# Altium footprint library PcbLib1.PcbLib: 18 footprints (part 1 of 2)
Each footprint in its own frame and in the unit in brackets; x right, y up, seen from the top. Pads: shape width x height; smd on the part's side, far side on the other; paste and mask are expansions set on the pad; w line width, h text height; cw(c..) or ccw(c..) is an arc to the next point about the centre after c.
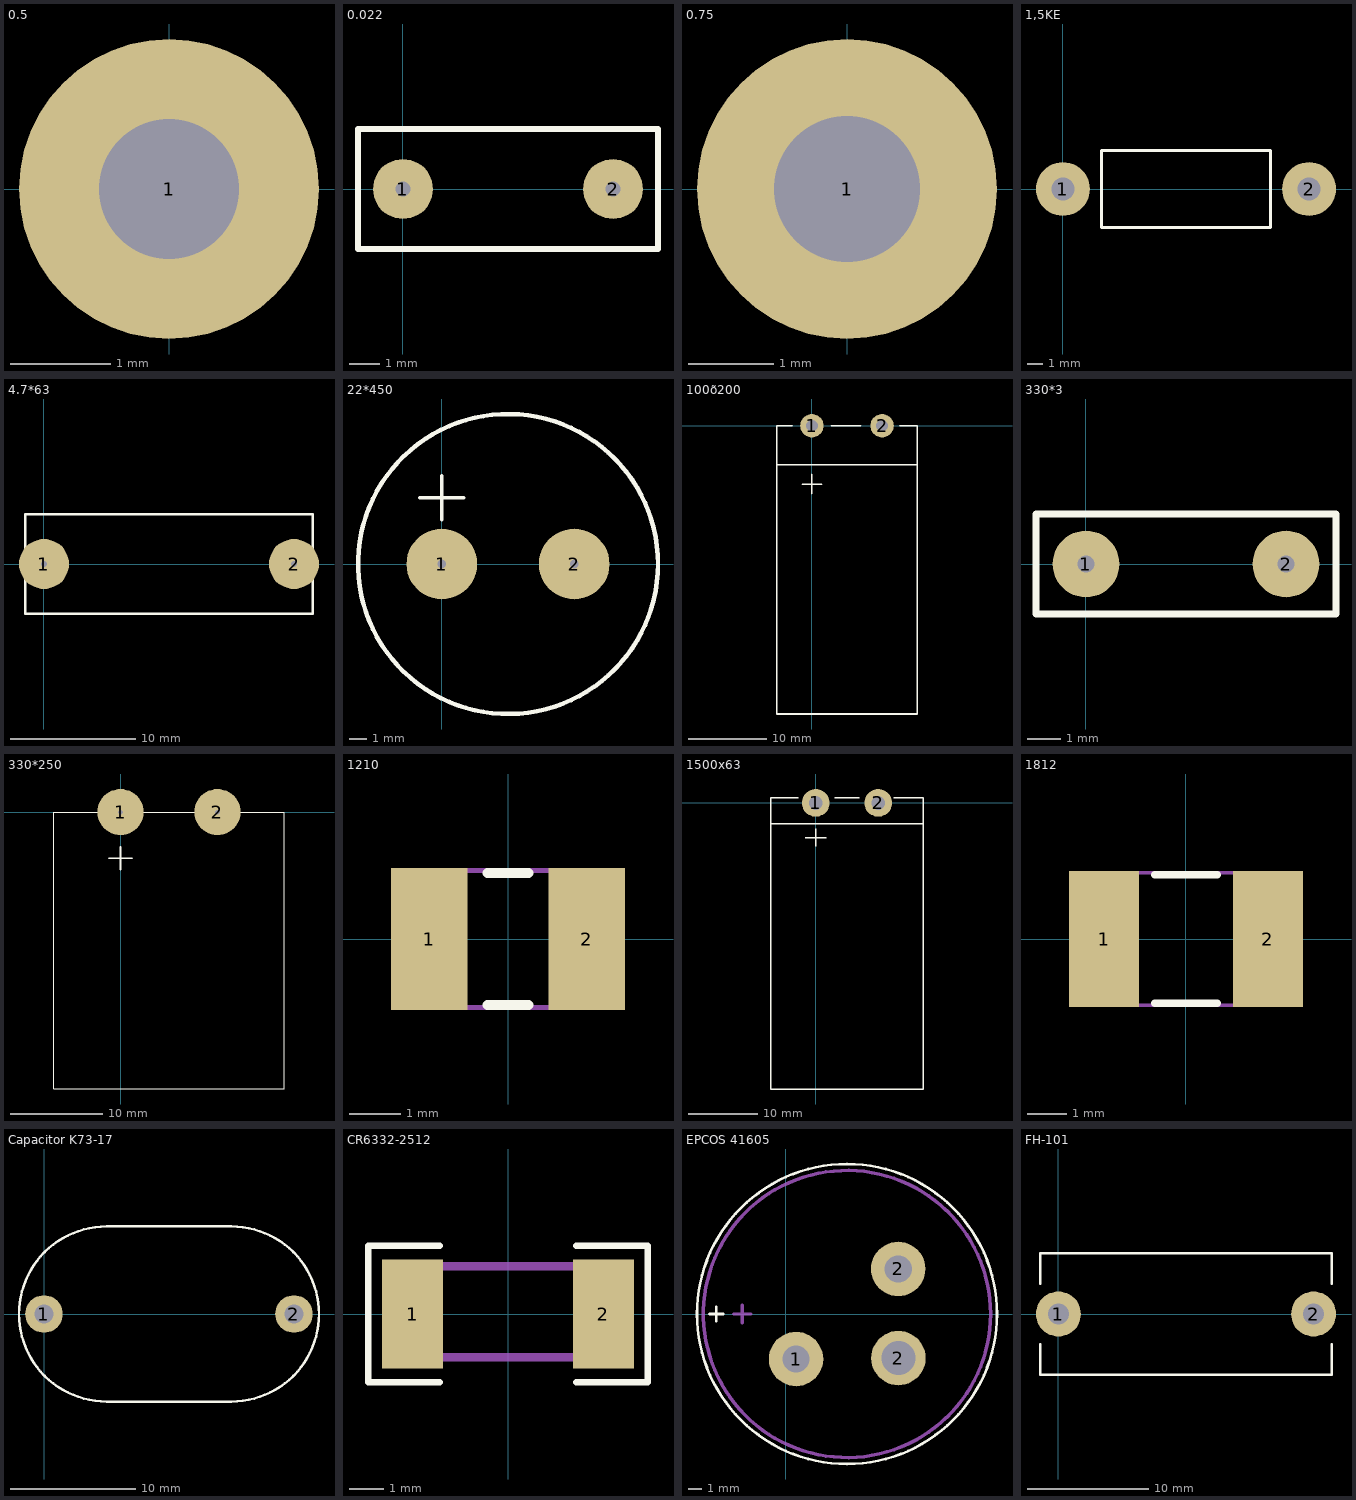
[diagram p0: the footprints below, top view; thin cyan lines are the x and y axes]

## 0.5 [mm]
pads (1):
  round 3 hole 1.4: 1(0,0)

## 0.022 [mm]
pads (2):
  round 2 hole 0.5: 1(0,0) 2(7,0)
Top Overlay:
  lines w0.2: -1.5,-2 8.5,-2 8.5,2 -1.5,2 -1.5,-2

## 0.75 [mm]
pads (1):
  round 3.5 hole 1.7: 1(0,0)

## 1,5KE [mm]
height 5
pads (2):
  round 3.5 hole 1.5: 1(0,0) 2(16,0)
Top Overlay:
  lines w0.2: 2.5,-2.5 13.5,-2.5 13.5,2.5 2.5,2.5 2.5,-2.5
3D body: height 3, standoff 2, extent 13.5,-0.5 16.5,0.5
3D body: height 3, standoff -3, extent 15.5,-0.5 16.5,0.5
3D body: height 3, standoff -3, extent -0.5,-0.5 0.5,0.5
3D body: height 3, standoff 2, extent -0.5,-0.5 2.5,0.5
3D body: height 5, standoff 0, extent 2.5,-2.5 13.5,2.5

## 4.7*63 [mm]
pads (2):
  round 4 hole 0.5: 1(0,0) 2(20,0)
Top Overlay:
  lines w0.2: -1.5,-4 -1.5,4 21.5,4 21.5,-4 -1.5,-4

## 22*450 [mm]
pads (2):
  round 4 hole 0.5: 1(0,0) 2(7.5,0)
Top Overlay:
  circle w0.254: c3.75,0 r8.5
  lines w0.2: -1.25,3.75 1.25,3.75 ; 0,2.5 0,5

## 100õ200 [mm]
pads (2):
  round 3 hole 1.5: 1(0,0) 2(9,0)
Top Overlay:
  lines w0.2: -4.465,-5 13.5,-5 ; -2.5,0 -4.5,0 -4.5,-37 13.5,-37 13.5,0 11.25,0 ; -1.25,-7.5 1.25,-7.5 ; 0,-8.75 0,-6.25 ; 2.5,0 6.25,0
3D body: height 19.98, standoff 2.02, extent -4.465,-37 13.465,-5
3D body: height 11, standoff -3, extent -0.75,-0.75 0.75,0.75
3D body: height 11, standoff 9, extent -0.75,-6.25 0.75,0.75
3D body: height 11, standoff 9, extent 8.25,-6.25 9.75,0.75
3D body: height 11, standoff -3, extent 8.25,-0.75 9.75,0.75

## 330*3 [mm]
pads (2):
  round 2 hole 0.5: 1(0,0) 2(6,0)
Top Overlay:
  lines w0.2: -1.5,-1.5 -1.5,1.5 7.5,1.5 7.5,-1.5 -1.5,-1.5

## 330*250 [mm]
pads (2):
  round 5 hole 0.5: 1(0,0) 2(10.5,0)
Top Overlay:
  lines w0.1: -7.25,-30 -7.25,0 17.75,0 17.75,-30 -7.25,-30
  lines w0.2: -1.25,-5 1.25,-5 ; 0,-6.25 0,-3.75

## 1210 [mm] "Chip Capacitor, Body 3.2x2.5mm, IPC Low Density"
height 1.35
pads (2):
  rect 1.5x2.8 smd: 1(-1.55,0) 2(1.55,0)
Top Overlay:
  lines w0.2: -0.4,-1.3 0.4,-1.3 ; -0.4,1.3 0.4,1.3
Mechanical 13:
  lines w0.1: -1.7,-1.35 -1.7,1.35 1.7,1.35 1.7,-1.35 -1.7,-1.35
3D body: height 1.35, standoff 0, extent -1.7,-1.35 1.7,1.35

## 1500x63 [mm]
pads (2):
  round 4 hole 2: 1(0,0) 2(9,0)
Top Overlay:
  lines w0.2: -6.5,-3 15.5,-3 ; -2.5,0.75 -6.5,0.75 -6.5,-41.25 15.5,-41.25 15.5,0.75 11.25,0.75 ; -1.5,-5 1.5,-5 ; 0,-6.25 0,-3.75 ; 2.75,0.75 6.25,0.75
3D body: height 11, standoff -3, extent 8,-1 10,1
3D body: height 11, standoff 9, extent 8,-2.5 10,1
3D body: height 11, standoff 9, extent -1,-2.5 1,1
3D body: height 11, standoff -3, extent -1,-1 1,1
3D body: height 21.98, standoff 0.02, extent -6.5,-41.25 15.413,-1.25

## 1812 [mm] "Chip Capacitor, Body 4.5x3.2mm, IPC Low Density"
height 1.35
pads (2):
  rect 1.8x3.5 smd: 1(-2.1,0) 2(2.1,0)
Top Overlay:
  lines w0.2: -0.8,-1.65 0.8,-1.65 ; -0.8,1.65 0.8,1.65
Mechanical 13:
  lines w0.1: -2.4,-1.7 2.4,-1.7 2.4,1.7 -2.4,1.7 -2.4,-1.7
3D body: height 1.35, standoff 0, extent -2.4,-1.7 2.4,1.7

## Capacitor K73-17 [mm]
height 30
pads (2):
  round 3 hole 1.5: 1(0,0) 2(20,0)
Top Overlay:
  lines w0.2: 5,-7 cw(c5,0) 5,7 15,7 cw(c15,0) 15,-7 5,-7
Mechanical 3:
  circle w0.15: c20.001,0 r0.7
  circle w0.15: c-0.013,0 r0.7
3D body: height 6, standoff 0, extent 2.25,-7.25 17.75,7.25
3D body: height 10, standoff -3, extent 19.5,-0.5 20.5,0.5
3D body: height 10, standoff -3, extent -0.5,-0.5 0.5,0.5
3D body: height 30.02, standoff 5.01, extent 8,-7 21.945,6.972
3D body: height 30.02, standoff 5.01, extent -2,-7 11.945,6.972
3D body: height 30, standoff 5, extent 5,-7 15,7

## CR6332-2512 [mm]
pads (2):
  rect 1.8x3.2 smd: 1(-2.8,0) 2(2.8,0)
Top Overlay:
  lines w0.2: -2,-2 -4.1,-2 -4.1,2 -2,2 ; 2,-2 4.1,-2 4.1,2 2,2
Mechanical 3:
  lines w0.254: -2.032,-1.27 -2.032,1.397 ; 2.032,-1.27 2.032,1.397 ; -3.175,-1.27 -3.175,1.397 3.175,1.397 3.175,-1.27 -3.175,-1.27
3D body: height 0.47, standoff 0, extent -3.175,-1.601 3.175,1.601

## EPCOS 41605 [mm]
pads (3):
  round 4 hole 2: 1(0.762,-3.302) 2(8.255,3.302)
  round 4 hole 2.5: 2(8.273,-3.23)
Top Overlay:
  circle w0.2: c4.5,0 r11
  lines w0.2: -5.588,0 -4.572,0 ; -5.08,-0.508 -5.08,0 -5.08,0.508
Mechanical 3:
  circle w0.254: c4.5,0 r10.529
  lines w0.254: -3.81,0 -3.175,0 -2.54,0 ; -3.175,-0.635 -3.175,0.635
3D body: height 40, standoff 0, extent -6.477,-10.922 15.436,11.035

## FH-101 [mm]
height 13
pads (2):
  round 3.7 hole 1.7: 1(0,0) 2(21,0)
Top Overlay:
  lines w0.2: -1.5,-2.5 -1.5,-5 22.5,-5 22.5,-2.5 ; -1.5,2.5 -1.5,5 22.5,5 22.5,2.5
3D body: height 13.4, standoff 0, extent -1.5,-5 22.5,5
3D body: height 3, standoff -3, extent -0.5,-0.5 0.5,0.5
3D body: height 3, standoff -3, extent 20.5,-0.5 21.5,0.5